# Altium footprint library FPC0.5.PcbLib: 38 footprints (part 2 of 3)
Each footprint in its own frame and in the unit in brackets; x right, y up, seen from the top. Pads: shape width x height; smd on the part's side, far side on the other; paste and mask are expansions set on the pad; w line width, h text height; cw(c..) or ccw(c..) is an arc to the next point about the centre after c.
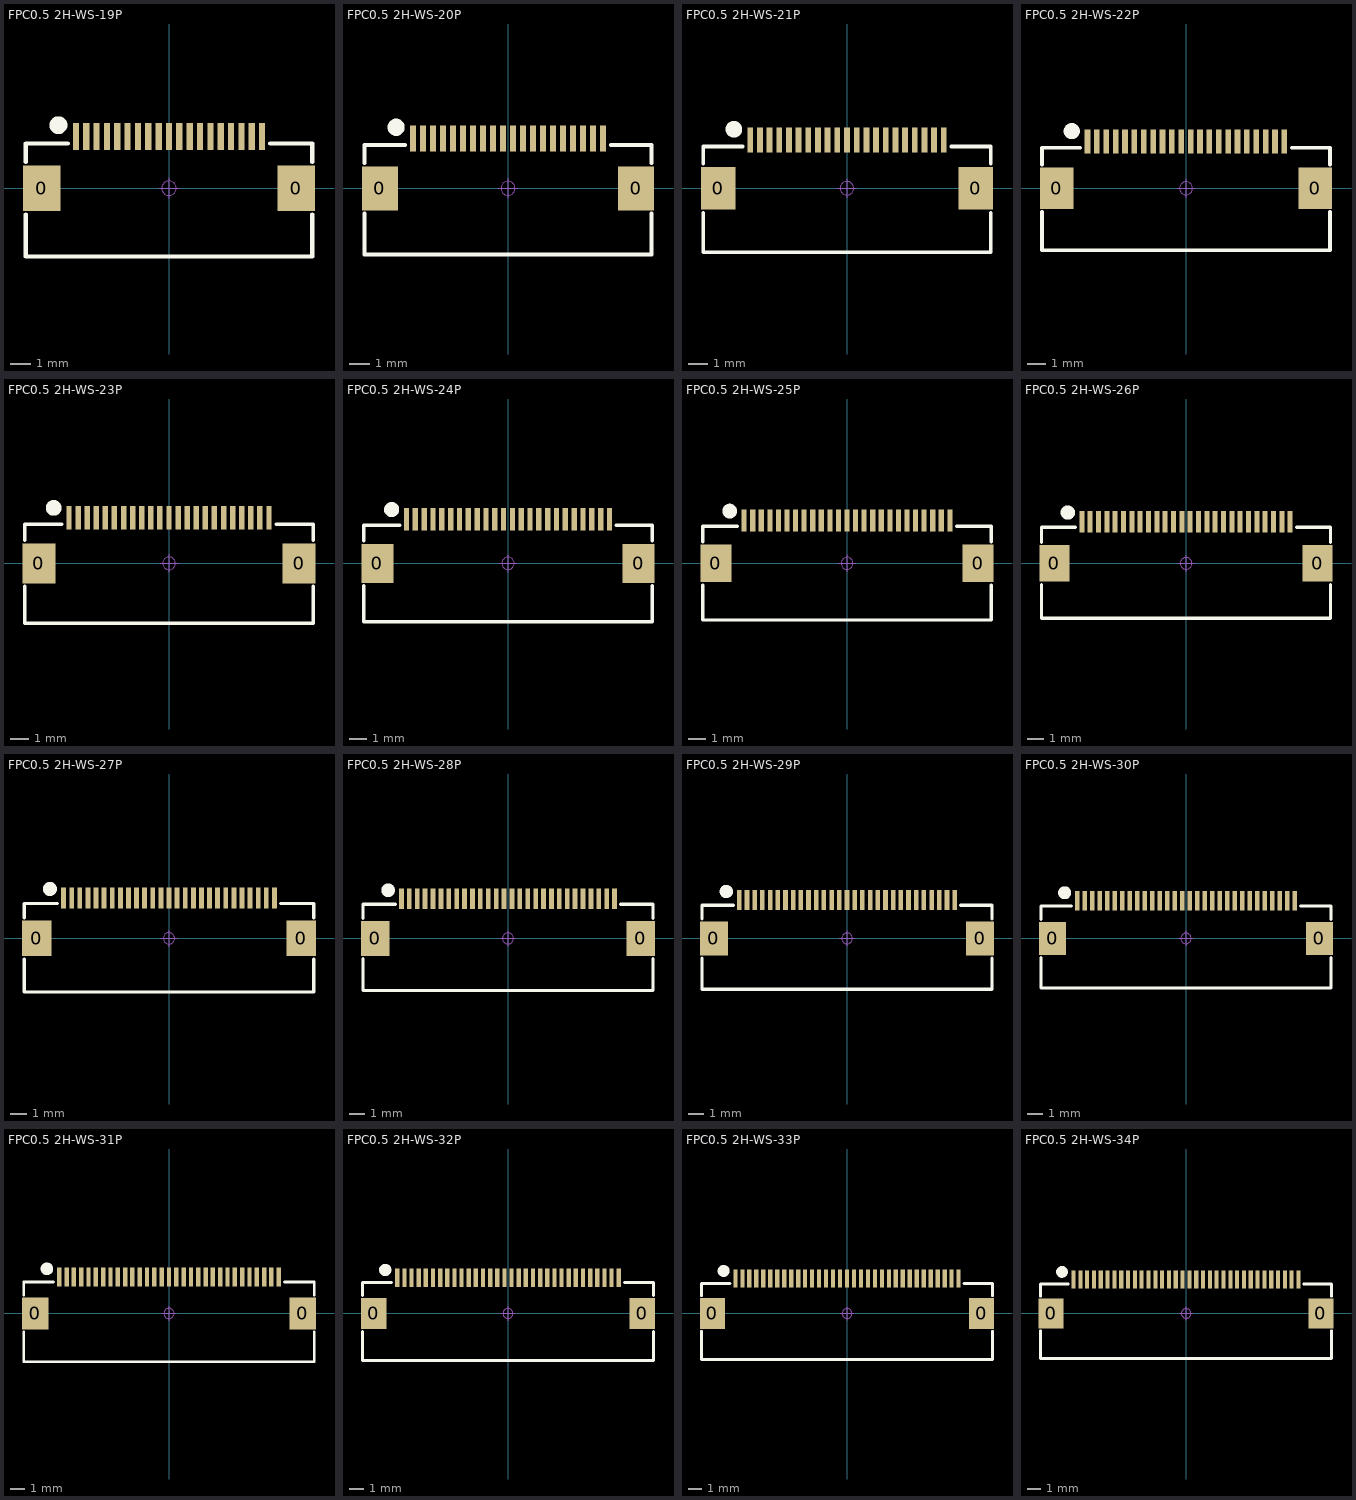
[diagram p1: the footprints below, top view; thin cyan lines are the x and y axes]

## FPC0.5 2H-WS-19P [mm] "长：13.7mm，宽：5.2mm，高：2mm"
pads (21):
  rect 1.8x2.2 smd: 0(-6.15,0) 0(6.15,0)
  rect 0.3x1.3 smd: 1(-4.5,2.497) 2(-4,2.497) 3(-3.5,2.497) 4(-3,2.497) 5(-2.5,2.497) 6(-2,2.497) 7(-1.5,2.497) 8(-1,2.497) 9(-0.5,2.497) 10(0,2.497) 11(0.5,2.497) 12(1,2.497) 13(1.5,2.497) 14(2,2.497) 15(2.5,2.497) 16(3,2.497) 17(3.5,2.497) 18(4,2.497) 19(4.5,2.497)
Top Overlay:
  circle w0.5: c-5.344,3.048 r0.18
  lines w0.2: -6.925,-1.27 -6.925,-3.302 6.925,-3.302 6.925,-1.27 ; -6.925,1.27 -6.925,2.159 -4.893,2.159 ; 4.893,2.159 6.925,2.159 6.925,1.27
Mechanical 15:
  circle w0.05: c0,0 r0.35
  lines w0.05: -0.5,0 0.5,0 ; 0,-0.5 0,0.5
3D body "FPC0.5 2H-S-W-19P.STEP": height 2, standoff -0.01, extent -6.85,-3.15 6.85,2.85

## FPC0.5 2H-WS-20P [mm] "长：14.2mm，宽：5.2mm，高：2mm"
pads (22):
  rect 1.8x2.2 smd: 0(-6.4,0) 0(6.4,0)
  rect 0.3x1.3 smd: 1(-4.75,2.497) 2(-4.25,2.497) 3(-3.75,2.497) 4(-3.25,2.497) 5(-2.75,2.497) 6(-2.25,2.497) 7(-1.75,2.497) 8(-1.25,2.497) 9(-0.75,2.497) 10(-0.25,2.497) 11(0.25,2.497) 12(0.75,2.497) 13(1.25,2.497) 14(1.75,2.497) 15(2.25,2.497) 16(2.75,2.497) 17(3.25,2.497) 18(3.75,2.497) 19(4.25,2.497) 20(4.75,2.497)
Top Overlay:
  circle w0.5: c-5.594,3.048 r0.18
  lines w0.2: -7.175,-1.27 -7.175,-3.302 7.175,-3.302 7.175,-1.27 ; -7.175,1.27 -7.175,2.159 -5.143,2.159 ; 5.143,2.159 7.175,2.159 7.175,1.27
Mechanical 15:
  circle w0.05: c0,0 r0.35
  lines w0.05: -0.5,0 0.5,0 ; 0,-0.5 0,0.5
3D body "FPC0.5 2H-S-W-20P.STEP": height 2, standoff -0.01, extent -7.1,-3.15 7.1,2.85

## FPC0.5 2H-WS-21P [mm] "长：14.7mm，宽：5.2mm，高：2mm"
pads (23):
  rect 1.8x2.2 smd: 0(-6.65,0) 0(6.65,0)
  rect 0.3x1.3 smd: 1(-5,2.497) 2(-4.5,2.497) 3(-4,2.497) 4(-3.5,2.497) 5(-3,2.497) 6(-2.5,2.497) 7(-2,2.497) 8(-1.5,2.497) 9(-1,2.497) 10(-0.5,2.497) 11(0,2.497) 12(0.5,2.497) 13(1,2.497) 14(1.5,2.497) 15(2,2.497) 16(2.5,2.497) 17(3,2.497) 18(3.5,2.497) 19(4,2.497) 20(4.5,2.497) 21(5,2.497)
Top Overlay:
  circle w0.5: c-5.844,3.048 r0.18
  lines w0.2: -7.425,-1.27 -7.425,-3.302 7.425,-3.302 7.425,-1.27 ; -7.425,1.27 -7.425,2.159 -5.393,2.159 ; 5.393,2.159 7.425,2.159 7.425,1.27
Mechanical 15:
  circle w0.05: c0,0 r0.35
  lines w0.05: -0.5,0 0.5,0 ; 0,-0.5 0,0.5
3D body "FPC0.5 2H-S-W-21P.STEP": height 2, standoff -0.01, extent -7.35,-3.15 7.35,2.85

## FPC0.5 2H-WS-22P [mm] "长：15.2mm，宽：5.2mm，高：2mm"
pads (24):
  rect 1.8x2.2 smd: 0(-6.9,0) 0(6.9,0)
  rect 0.3x1.3 smd: 1(-5.25,2.497) 2(-4.75,2.497) 3(-4.25,2.497) 4(-3.75,2.497) 5(-3.25,2.497) 6(-2.75,2.497) 7(-2.25,2.497) 8(-1.75,2.497) 9(-1.25,2.497) 10(-0.75,2.497) 11(-0.25,2.497) 12(0.25,2.497) 13(0.75,2.497) 14(1.25,2.497) 15(1.75,2.497) 16(2.25,2.497) 17(2.75,2.497) 18(3.25,2.497) 19(3.75,2.497) 20(4.25,2.497) 21(4.75,2.497) 22(5.25,2.497)
Top Overlay:
  circle w0.5: c-6.094,3.048 r0.18
  lines w0.2: -7.675,-1.27 -7.675,-3.302 7.675,-3.302 7.675,-1.27 ; -7.675,1.27 -7.675,2.159 -5.643,2.159 ; 5.643,2.159 7.675,2.159 7.675,1.27
Mechanical 15:
  circle w0.05: c0,0 r0.35
  lines w0.05: -0.5,0 0.5,0 ; 0,-0.5 0,0.5
3D body "FPC0.5 2H-S-W-22P.STEP": height 2, standoff -0.01, extent -7.6,-3.15 7.6,2.85

## FPC0.5 2H-WS-23P [mm] "长：15.7mm，宽：5.2mm，高：2mm"
pads (25):
  rect 1.8x2.2 smd: 0(-7.15,0) 0(7.15,0)
  rect 0.3x1.3 smd: 1(-5.5,2.497) 2(-5,2.497) 3(-4.5,2.497) 4(-4,2.497) 5(-3.5,2.497) 6(-3,2.497) 7(-2.5,2.497) 8(-2,2.497) 9(-1.5,2.497) 10(-1,2.497) 11(-0.5,2.497) 12(0,2.497) 13(0.5,2.497) 14(1,2.497) 15(1.5,2.497) 16(2,2.497) 17(2.5,2.497) 18(3,2.497) 19(3.5,2.497) 20(4,2.497) 21(4.5,2.497) 22(5,2.497) 23(5.5,2.497)
Top Overlay:
  circle w0.5: c-6.344,3.048 r0.18
  lines w0.2: -7.925,-1.27 -7.925,-3.302 7.925,-3.302 7.925,-1.27 ; -7.925,1.27 -7.925,2.159 -5.893,2.159 ; 5.893,2.159 7.925,2.159 7.925,1.27
Mechanical 15:
  circle w0.05: c0,0 r0.35
  lines w0.05: -0.5,0 0.5,0 ; 0,-0.5 0,0.5
3D body "FPC0.5 2H-S-W-23P.STEP": height 2, standoff -0.01, extent -7.85,-3.15 7.85,2.85

## FPC0.5 2H-WS-24P [mm] "长：16.2mm，宽：5.2mm，高：2mm"
pads (26):
  rect 1.8x2.2 smd: 0(-7.4,0) 0(7.4,0)
  rect 0.3x1.3 smd: 1(-5.75,2.497) 2(-5.25,2.497) 3(-4.75,2.497) 4(-4.25,2.497) 5(-3.75,2.497) 6(-3.25,2.497) 7(-2.75,2.497) 8(-2.25,2.497) 9(-1.75,2.497) 10(-1.25,2.497) 11(-0.75,2.497) 12(-0.25,2.497) 13(0.25,2.497) 14(0.75,2.497) 15(1.25,2.497) 16(1.75,2.497) 17(2.25,2.497) 18(2.75,2.497) 19(3.25,2.497) 20(3.75,2.497) 21(4.25,2.497) 22(4.75,2.497) 23(5.25,2.497) 24(5.75,2.497)
Top Overlay:
  circle w0.5: c-6.594,3.048 r0.18
  lines w0.2: -8.175,-1.27 -8.175,-3.302 8.175,-3.302 8.175,-1.27 ; -8.175,1.27 -8.175,2.159 -6.143,2.159 ; 6.143,2.159 8.175,2.159 8.175,1.27
Mechanical 15:
  circle w0.05: c0,0 r0.35
  lines w0.05: -0.5,0 0.5,0 ; 0,-0.5 0,0.5
3D body "FPC0.5 2H-S-W-24P.STEP": height 2, standoff -0.01, extent -8.1,-3.15 8.1,2.85

## FPC0.5 2H-WS-25P [mm] "长：16.7mm，宽：5.2mm，高：2mm"
pads (27):
  rect 1.8x2.2 smd: 0(-7.65,0) 0(7.65,0)
  rect 0.3x1.3 smd: 1(-6,2.497) 2(-5.5,2.497) 3(-5,2.497) 4(-4.5,2.497) 5(-4,2.497) 6(-3.5,2.497) 7(-3,2.497) 8(-2.5,2.497) 9(-2,2.497) 10(-1.5,2.497) 11(-1,2.497) 12(-0.5,2.497) 13(0,2.497) 14(0.5,2.497) 15(1,2.497) 16(1.5,2.497) 17(2,2.497) 18(2.5,2.497) 19(3,2.497) 20(3.5,2.497) 21(4,2.497) 22(4.5,2.497) 23(5,2.497) 24(5.5,2.497) 25(6,2.497)
Top Overlay:
  circle w0.5: c-6.844,3.048 r0.18
  lines w0.2: -8.425,-1.27 -8.425,-3.302 8.425,-3.302 8.425,-1.27 ; -8.425,1.27 -8.425,2.159 -6.393,2.159 ; 6.393,2.159 8.425,2.159 8.425,1.27
Mechanical 15:
  circle w0.05: c0,0 r0.35
  lines w0.05: -0.5,0 0.5,0 ; 0,-0.5 0,0.5
3D body "FPC0.5 2H-S-W-25P.STEP": height 2, standoff -0.01, extent -8.35,-3.15 8.35,2.85

## FPC0.5 2H-WS-26P [mm] "长：17.2mm，宽：5.2mm，高：2mm"
pads (28):
  rect 1.8x2.2 smd: 0(-7.9,0) 0(7.9,0)
  rect 0.3x1.3 smd: 1(-6.25,2.497) 2(-5.75,2.497) 3(-5.25,2.497) 4(-4.75,2.497) 5(-4.25,2.497) 6(-3.75,2.497) 7(-3.25,2.497) 8(-2.75,2.497) 9(-2.25,2.497) 10(-1.75,2.497) 11(-1.25,2.497) 12(-0.75,2.497) 13(-0.25,2.497) 14(0.25,2.497) 15(0.75,2.497) 16(1.25,2.497) 17(1.75,2.497) 18(2.25,2.497) 19(2.75,2.497) 20(3.25,2.497) 21(3.75,2.497) 22(4.25,2.497) 23(4.75,2.497) 24(5.25,2.497) 25(5.75,2.497) 26(6.25,2.497)
Top Overlay:
  circle w0.5: c-7.094,3.048 r0.18
  lines w0.2: -8.675,-1.27 -8.675,-3.302 8.675,-3.302 8.675,-1.27 ; -8.675,1.27 -8.675,2.159 -6.643,2.159 ; 6.643,2.159 8.675,2.159 8.675,1.27
Mechanical 15:
  circle w0.05: c0,0 r0.35
  lines w0.05: -0.5,0 0.5,0 ; 0,-0.5 0,0.5
3D body "FPC0.5 2H-S-W-26P.STEP": height 2, standoff -0.01, extent -8.6,-3.15 8.6,2.85

## FPC0.5 2H-WS-27P [mm] "长：17.7mm，宽：5.2mm，高：2mm"
pads (29):
  rect 1.8x2.2 smd: 0(-8.15,0) 0(8.15,0)
  rect 0.3x1.3 smd: 1(-6.5,2.497) 2(-6,2.497) 3(-5.5,2.497) 4(-5,2.497) 5(-4.5,2.497) 6(-4,2.497) 7(-3.5,2.497) 8(-3,2.497) 9(-2.5,2.497) 10(-2,2.497) 11(-1.5,2.497) 12(-1,2.497) 13(-0.5,2.497) 14(0,2.497) 15(0.5,2.497) 16(1,2.497) 17(1.5,2.497) 18(2,2.497) 19(2.5,2.497) 20(3,2.497) 21(3.5,2.497) 22(4,2.497) 23(4.5,2.497) 24(5,2.497) 25(5.5,2.497) 26(6,2.497) 27(6.5,2.497)
Top Overlay:
  circle w0.5: c-7.344,3.048 r0.18
  lines w0.2: -8.925,-1.27 -8.925,-3.302 8.925,-3.302 8.925,-1.27 ; -8.925,1.27 -8.925,2.159 -6.893,2.159 ; 6.893,2.159 8.925,2.159 8.925,1.27
Mechanical 15:
  circle w0.05: c0,0 r0.35
  lines w0.05: -0.5,0 0.5,0 ; 0,-0.5 0,0.5
3D body "FPC0.5 2H-S-W-27P.STEP": height 2, standoff -0.01, extent -8.85,-3.15 8.85,2.85

## FPC0.5 2H-WS-28P [mm] "长：18.2mm，宽：5.2mm，高：2mm"
pads (30):
  rect 1.8x2.2 smd: 0(-8.4,0) 0(8.4,0)
  rect 0.3x1.3 smd: 1(-6.75,2.497) 2(-6.25,2.497) 3(-5.75,2.497) 4(-5.25,2.497) 5(-4.75,2.497) 6(-4.25,2.497) 7(-3.75,2.497) 8(-3.25,2.497) 9(-2.75,2.497) 10(-2.25,2.497) 11(-1.75,2.497) 12(-1.25,2.497) 13(-0.75,2.497) 14(-0.25,2.497) 15(0.25,2.497) 16(0.75,2.497) 17(1.25,2.497) 18(1.75,2.497) 19(2.25,2.497) 20(2.75,2.497) 21(3.25,2.497) 22(3.75,2.497) 23(4.25,2.497) 24(4.75,2.497) 25(5.25,2.497) 26(5.75,2.497) 27(6.25,2.497) 28(6.75,2.497)
Top Overlay:
  circle w0.5: c-7.594,3.048 r0.18
  lines w0.2: -9.175,-1.27 -9.175,-3.302 9.175,-3.302 9.175,-1.27 ; -9.175,1.27 -9.175,2.159 -7.143,2.159 ; 7.143,2.159 9.175,2.159 9.175,1.27
Mechanical 15:
  circle w0.05: c0,0 r0.35
  lines w0.05: -0.5,0 0.5,0 ; 0,-0.5 0,0.5
3D body "FPC0.5 2H-S-W-28P.STEP": height 2, standoff -0.01, extent -9.1,-3.15 9.1,2.85

## FPC0.5 2H-WS-29P [mm] "长：18.7mm，宽：5.2mm，高：2mm"
pads (31):
  rect 1.8x2.2 smd: 0(-8.65,0) 0(8.65,0)
  rect 0.3x1.3 smd: 1(-7,2.497) 2(-6.5,2.497) 3(-6,2.497) 4(-5.5,2.497) 5(-5,2.497) 6(-4.5,2.497) 7(-4,2.497) 8(-3.5,2.497) 9(-3,2.497) 10(-2.5,2.497) 11(-2,2.497) 12(-1.5,2.497) 13(-1,2.497) 14(-0.5,2.497) 15(0,2.497) 16(0.5,2.497) 17(1,2.497) 18(1.5,2.497) 19(2,2.497) 20(2.5,2.497) 21(3,2.497) 22(3.5,2.497) 23(4,2.497) 24(4.5,2.497) 25(5,2.497) 26(5.5,2.497) 27(6,2.497) 28(6.5,2.497) 29(7,2.497)
Top Overlay:
  circle w0.5: c-7.844,3.048 r0.18
  lines w0.2: -9.425,-1.27 -9.425,-3.302 9.425,-3.302 9.425,-1.27 ; -9.425,1.27 -9.425,2.159 -7.393,2.159 ; 7.393,2.159 9.425,2.159 9.425,1.27
Mechanical 15:
  circle w0.05: c0,0 r0.35
  lines w0.05: -0.5,0 0.5,0 ; 0,-0.5 0,0.5
3D body "FPC0.5 2H-S-W-29P.STEP": height 2, standoff -0.01, extent -9.35,-3.15 9.35,2.85

## FPC0.5 2H-WS-30P [mm] "长：19.2mm，宽：5.2mm，高：2mm"
pads (32):
  rect 1.8x2.2 smd: 0(-8.9,0) 0(8.9,0)
  rect 0.3x1.3 smd: 1(-7.25,2.497) 2(-6.75,2.497) 3(-6.25,2.497) 4(-5.75,2.497) 5(-5.25,2.497) 6(-4.75,2.497) 7(-4.25,2.497) 8(-3.75,2.497) 9(-3.25,2.497) 10(-2.75,2.497) 11(-2.25,2.497) 12(-1.75,2.497) 13(-1.25,2.497) 14(-0.75,2.497) 15(-0.25,2.497) 16(0.25,2.497) 17(0.75,2.497) 18(1.25,2.497) 19(1.75,2.497) 20(2.25,2.497) 21(2.75,2.497) 22(3.25,2.497) 23(3.75,2.497) 24(4.25,2.497) 25(4.75,2.497) 26(5.25,2.497) 27(5.75,2.497) 28(6.25,2.497) 29(6.75,2.497) 30(7.25,2.497)
Top Overlay:
  circle w0.5: c-8.094,3.048 r0.18
  lines w0.2: -9.675,-1.27 -9.675,-3.302 9.675,-3.302 9.675,-1.27 ; -9.675,1.27 -9.675,2.159 -7.643,2.159 ; 7.643,2.159 9.675,2.159 9.675,1.27
Mechanical 15:
  circle w0.05: c0,0 r0.35
  lines w0.05: -0.5,0 0.5,0 ; 0,-0.5 0,0.5
3D body "FPC0.5 2H-S-W-30P.STEP": height 2, standoff -0.01, extent -9.6,-3.15 9.6,2.85

## FPC0.5 2H-WS-31P [mm] "长：19.7mm，宽：5.2mm，高：2mm"
pads (33):
  rect 1.8x2.2 smd: 0(-9.15,0) 0(9.15,0)
  rect 0.3x1.3 smd: 1(-7.5,2.497) 2(-7,2.497) 3(-6.5,2.497) 4(-6,2.497) 5(-5.5,2.497) 6(-5,2.497) 7(-4.5,2.497) 8(-4,2.497) 9(-3.5,2.497) 10(-3,2.497) 11(-2.5,2.497) 12(-2,2.497) 13(-1.5,2.497) 14(-1,2.497) 15(-0.5,2.497) 16(0,2.497) 17(0.5,2.497) 18(1,2.497) 19(1.5,2.497) 20(2,2.497) 21(2.5,2.497) 22(3,2.497) 23(3.5,2.497) 24(4,2.497) 25(4.5,2.497) 26(5,2.497) 27(5.5,2.497) 28(6,2.497) 29(6.5,2.497) 30(7,2.497) 31(7.5,2.497)
Top Overlay:
  circle w0.5: c-8.344,3.048 r0.18
  lines w0.2: -9.925,-1.27 -9.925,-3.302 9.925,-3.302 9.925,-1.27 ; -9.925,1.27 -9.925,2.159 -7.893,2.159 ; 7.893,2.159 9.925,2.159 9.925,1.27
Mechanical 15:
  circle w0.05: c0,0 r0.35
  lines w0.05: -0.5,0 0.5,0 ; 0,-0.5 0,0.5
3D body "FPC0.5 2H-S-W-31P.STEP": height 2, standoff -0.01, extent -9.85,-3.15 9.85,2.85

## FPC0.5 2H-WS-32P [mm] "长：20.2mm，宽：5.2mm，高：2mm"
pads (34):
  rect 1.8x2.2 smd: 0(-9.4,0) 0(9.4,0)
  rect 0.3x1.3 smd: 1(-7.75,2.497) 2(-7.25,2.497) 3(-6.75,2.497) 4(-6.25,2.497) 5(-5.75,2.497) 6(-5.25,2.497) 7(-4.75,2.497) 8(-4.25,2.497) 9(-3.75,2.497) 10(-3.25,2.497) 11(-2.75,2.497) 12(-2.25,2.497) 13(-1.75,2.497) 14(-1.25,2.497) 15(-0.75,2.497) 16(-0.25,2.497) 17(0.25,2.497) 18(0.75,2.497) 19(1.25,2.497) 20(1.75,2.497) 21(2.25,2.497) 22(2.75,2.497) 23(3.25,2.497) 24(3.75,2.497) 25(4.25,2.497) 26(4.75,2.497) 27(5.25,2.497) 28(5.75,2.497) 29(6.25,2.497) 30(6.75,2.497) 31(7.25,2.497) 32(7.75,2.497)
Top Overlay:
  circle w0.5: c-8.594,3.048 r0.18
  lines w0.2: -10.175,-1.27 -10.175,-3.302 10.175,-3.302 10.175,-1.27 ; -10.175,1.27 -10.175,2.159 -8.143,2.159 ; 8.143,2.159 10.175,2.159 10.175,1.27
Mechanical 15:
  circle w0.05: c0,0 r0.35
  lines w0.05: -0.5,0 0.5,0 ; 0,-0.5 0,0.5
3D body "FPC0.5 2H-S-W-32P.STEP": height 2, standoff -0.01, extent -10.1,-3.15 10.1,2.85

## FPC0.5 2H-WS-33P [mm] "长：20.7mm，宽：5.2mm，高：2mm"
pads (35):
  rect 1.8x2.2 smd: 0(-9.65,0) 0(9.65,0)
  rect 0.3x1.3 smd: 1(-8,2.497) 2(-7.5,2.497) 3(-7,2.497) 4(-6.5,2.497) 5(-6,2.497) 6(-5.5,2.497) 7(-5,2.497) 8(-4.5,2.497) 9(-4,2.497) 10(-3.5,2.497) 11(-3,2.497) 12(-2.5,2.497) 13(-2,2.497) 14(-1.5,2.497) 15(-1,2.497) 16(-0.5,2.497) 17(0,2.497) 18(0.5,2.497) 19(1,2.497) 20(1.5,2.497) 21(2,2.497) 22(2.5,2.497) 23(3,2.497) 24(3.5,2.497) 25(4,2.497) 26(4.5,2.497) 27(5,2.497) 28(5.5,2.497) 29(6,2.497) 30(6.5,2.497) 31(7,2.497) 32(7.5,2.497) 33(8,2.497)
Top Overlay:
  circle w0.5: c-8.844,3.048 r0.18
  lines w0.2: -10.425,-1.27 -10.425,-3.302 10.425,-3.302 10.425,-1.27 ; -10.425,1.27 -10.425,2.159 -8.393,2.159 ; 8.393,2.159 10.425,2.159 10.425,1.27
Mechanical 15:
  circle w0.05: c0,0 r0.35
  lines w0.05: -0.5,0 0.5,0 ; 0,-0.5 0,0.5
3D body "FPC0.5 2H-S-W-33P.STEP": height 2, standoff -0.01, extent -10.35,-3.15 10.35,2.85

## FPC0.5 2H-WS-34P [mm] "长：21.2mm，宽：5.2mm，高：2mm"
pads (36):
  rect 1.8x2.2 smd: 0(-9.9,0) 0(9.9,0)
  rect 0.3x1.3 smd: 1(-8.25,2.497) 2(-7.75,2.497) 3(-7.25,2.497) 4(-6.75,2.497) 5(-6.25,2.497) 6(-5.75,2.497) 7(-5.25,2.497) 8(-4.75,2.497) 9(-4.25,2.497) 10(-3.75,2.497) 11(-3.25,2.497) 12(-2.75,2.497) 13(-2.25,2.497) 14(-1.75,2.497) 15(-1.25,2.497) 16(-0.75,2.497) 17(-0.25,2.497) 18(0.25,2.497) 19(0.75,2.497) 20(1.25,2.497) 21(1.75,2.497) 22(2.25,2.497) 23(2.75,2.497) 24(3.25,2.497) 25(3.75,2.497) 26(4.25,2.497) 27(4.75,2.497) 28(5.25,2.497) 29(5.75,2.497) 30(6.25,2.497) 31(6.75,2.497) 32(7.25,2.497) 33(7.75,2.497) 34(8.25,2.497)
Top Overlay:
  circle w0.5: c-9.094,3.048 r0.18
  lines w0.2: -10.675,-1.27 -10.675,-3.302 10.675,-3.302 10.675,-1.27 ; -10.675,1.27 -10.675,2.159 -8.643,2.159 ; 8.643,2.159 10.675,2.159 10.675,1.27
Mechanical 15:
  circle w0.05: c0,0 r0.35
  lines w0.05: -0.5,0 0.5,0 ; 0,-0.5 0,0.5
3D body "FPC0.5 2H-S-W-34P.STEP": height 2, standoff -0.01, extent -10.6,-3.15 10.6,2.85